# Altium schematic symbol library 2512_Chip_Resistor.SchLib: 1 symbol
Pins are listed as number, name and electrical type; pins without a type are passive.

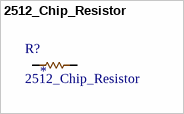
[diagram p0: symbol 2512_Chip_Resistor]

## 2512_Chip_Resistor
designator R?
2512  Chip Resistor - Surface Mount ROHS; LCSC: *
footprint 2512_Chip_Resistor
pins: 1, 2